# Altium schematic symbol library Connectors_Erni.SchLib: 60 symbols
Pins are listed as number, name and electrical type; pins without a type are passive.

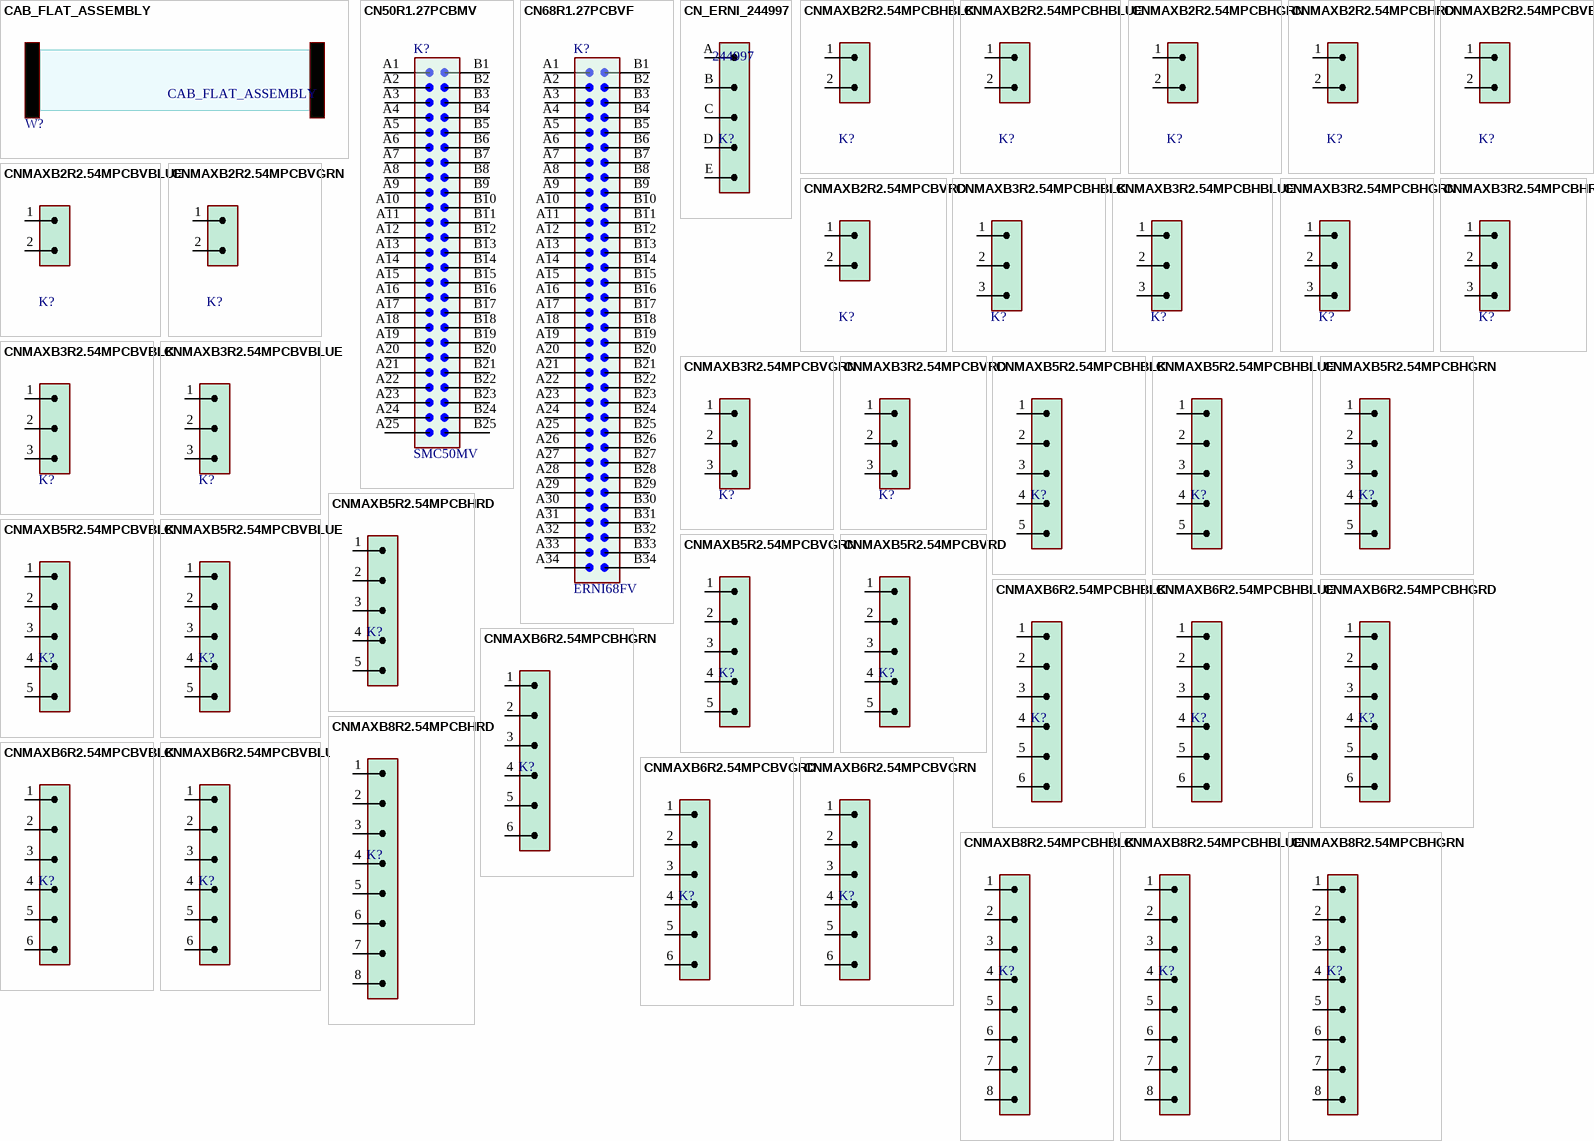
[diagram p0: symbols CAB_FLAT_ASSEMBLY to CNMAXB8R2.54MPCBHRD]

## CAB_FLAT_ASSEMBLY
designator W?
Flat Cable Assembly 50Ways 30AWG R0.635; Manufacturer: ERNI; Manufaturer No: 173793; Sort: 610; Comment2: 50Ways, Length 100mm, 30AWG

## CN50R1.27PCBMV
designator K?, comment SMC50MV
Connector 50 pin SMD R1.27mm male; Manufacturer: Erni; Sort: 610; Tech: SMDR; Price: 0
signal-integrity model Model Name (Model Description)
footprint SMC50MPCBV (ERNI SMC 50 pin MALE VERT)
pins: A1, A2, A3, A4, A5, A6, A7, A8, A9, A10, A11, A12, A13, A14, A15, A16, A17, A18, A19, A20, A21, A22, A23, A24, A25, B1, B2, B3, B4, B5, B6, B7, B8, B9, B10, B11, B12, B13, B14, B15, B16, B17, B18, B19, B20, B21, B22, B23, B24, B25

## CN68R1.27PCBVF
designator K?, comment ERNI68FV
Connector 64 pin SMD R1.0mm female; Manufacturer: Erni; Sort: 610; Tech: SMDR; Price: 0
signal-integrity model Model Name (Model Description)
footprint CN64R1FV (71439-0864)
pins: A1, A2, A3, A4, A5, A6, A7, A8, A9, A10, A11, A12, A13, A14, A15, A16, A17, A18, A19, A20, A21, A22, A23, A24, A25, A26, A27, A28, A29, A30, A31, A32, A33, A34, B1, B2, B3, B4, B5, B6, B7, B8, B9, B10, B11, B12, B13, B14, B15, B16, B17, B18, B19, B20, B21, B22, B23, B24, B25, B26, B27, B28, B29, B30, B31, B32, B33, B34

## CN_ERNI_244997
designator K?, comment 244997
MaxiBridge header 5 pin horiz closed R2.54mm Black; Manufacturer: ERNI; Sort: 610; Tech: THDW; Package: CN 5pin power; Manufacturer No: 244997; Price: 0
footprint CN_ERNI_244997 (CN power 5pin 22.3x17.7x14.3mm)
pins: A, B, C, D, E

## CNMAXB2R2.54MPCBHBLK
designator K?, comment MAXB2-R2.54-HBLK  (value not drawn)
MaxiBridge header 2 pin horiz closed R2.54mm Black; Manufacturer: ERNI; Manufacturer No: 234832; Sort: 610; Tech: THDW; Price: 0
footprint MAXB2MPCBH (MaxiBridge 2 pin MALE HORIZONTAL)
pins: 1, 2

## CNMAXB2R2.54MPCBHBLUE
designator K?, comment MAXB2-R2.54-HBLUE  (value not drawn)
MaxiBridge header 2 pin horiz closed R2.54mm Blue; Manufacturer: ERNI; Manufacturer No: 234833; Sort: 610; Tech: THDW; Price: 0
footprint MAXB2MPCBH (MaxiBridge 2 pin MALE HORIZONTAL)
pins: 1, 2

## CNMAXB2R2.54MPCBHGRN
designator K?, comment MAXB2-R2.54-HGRN  (value not drawn)
MaxiBridge header 2 pin horiz closed R2.54mm Green; Manufacturer: ERNI; Manufacturer No: 234834; Sort: 610; Tech: THDW; Price: 0
footprint MAXB2MPCBH (MaxiBridge 2 pin MALE HORIZONTAL)
pins: 1, 2

## CNMAXB2R2.54MPCBHRD
designator K?, comment MAXB2-R2.54-HRD  (value not drawn)
MaxiBridge header 2 pin horiz closed R2.54mm Red; Manufacturer: ERNI; Manufacturer No: 234835; Sort: 610; Tech: THDW; Price: 0
footprint MAXB2MPCBH (MaxiBridge 2 pin MALE HORIZONTAL)
pins: 1, 2

## CNMAXB2R2.54MPCBVBLK
designator K?, comment MAXB2-R2.54-VBLK  (value not drawn)
MaxiBridge header 2 pin vert closed R2.54mm Black; Manufacturer: ERNI; Manufacturer No: 294645; Sort: 610; Tech: THDW; Price: 0
footprint MAXB2MPCBV (MaxiBridge 2 pin Male vertical)
pins: 1, 2

## CNMAXB2R2.54MPCBVBLUE
designator K?, comment MAXB2-R2.54-VBLUE  (value not drawn)
MaxiBridge header 2 pin vert closed R2.54mm Blue; Manufacturer: ERNI; Manufacturer No: 294646; Sort: 610; Tech: THDW; Price: 0
footprint MAXB2MPCBV (MaxiBridge 2 pin Male vertical)
pins: 1, 2

## CNMAXB2R2.54MPCBVGRN
designator K?, comment MAXB2-R2.54-VGRN  (value not drawn)
MaxiBridge header 2 pin vert closed R2.54mm Green; Manufacturer: ERNI; Manufacturer No: 294647; Sort: 610; Tech: THDW; Price: 0
footprint MAXB2MPCBV (MaxiBridge 2 pin Male vertical)
pins: 1, 2

## CNMAXB2R2.54MPCBVRD
designator K?, comment MAXB2-R2.54-VRD  (value not drawn)
MaxiBridge header 2 pin vert closed R2.54mm Red; Manufacturer: ERNI; Manufacturer No: 294648; Sort: 610; Tech: THDW; Price: 0
footprint MAXB2MPCBV (MaxiBridge 2 pin Male vertical)
pins: 1, 2

## CNMAXB3R2.54MPCBHBLK
designator K?, comment MAXB3-R2.54-HBLK  (value not drawn)
MaxiBridge header 3 pin horiz closed R2.54mm Black; Manufacturer: ERNI; Manufacturer No: 284052; Sort: 610; Tech: THDW; Price: 0
footprint MAXB3MPCBH (MaxiBridge 3 pin MALE HORIZONTAL)
pins: 1, 2, 3

## CNMAXB3R2.54MPCBHBLUE
designator K?, comment MAXB3-R2.54-HBLUE  (value not drawn)
MaxiBridge header 3 pin horiz closed R2.54mm Blue; Manufacturer: ERNI; Manufacturer No: 284053; Sort: 610; Tech: THDW; Price: 0
footprint MAXB3MPCBH (MaxiBridge 3 pin MALE HORIZONTAL)
pins: 1, 2, 3

## CNMAXB3R2.54MPCBHGRN
designator K?, comment MAXB3-R2.54-HGRN  (value not drawn)
MaxiBridge header 3 pin horiz closed R2.54mm Green; Manufacturer: ERNI; Manufacturer No: 284054; Sort: 610; Tech: THDW; Price: 0
footprint MAXB3MPCBH (MaxiBridge 3 pin MALE HORIZONTAL)
pins: 1, 2, 3

## CNMAXB3R2.54MPCBHRD
designator K?, comment MAXB3-R2.54-HRD  (value not drawn)
MaxiBridge header 3 pin horiz closed R2.54mm Red; Manufacturer: ERNI; Manufacturer No: 284055; Sort: 610; Tech: THDW; Price: 0
footprint MAXB3MPCBH (MaxiBridge 3 pin MALE HORIZONTAL)
pins: 1, 2, 3

## CNMAXB3R2.54MPCBVBLK
designator K?, comment MAXB3-R2.54-VBLK  (value not drawn)
MaxiBridge header 3 pin vert closed R2.54mm Black; Manufacturer: ERNI; Manufacturer No: 284656; Sort: 610; Tech: THDW; Price: 0
footprint MAXB3MPCBV (MaxiBridge 3 pin Male vertical)
pins: 1, 2, 3

## CNMAXB3R2.54MPCBVBLUE
designator K?, comment MAXB3-R2.54-VBLUE  (value not drawn)
MaxiBridge header 3 pin vert closed R2.54mm Blue; Manufacturer: ERNI; Manufacturer No: 284657; Sort: 610; Tech: THDW; Price: 0
footprint MAXB3MPCBV (MaxiBridge 3 pin Male vertical)
pins: 1, 2, 3

## CNMAXB3R2.54MPCBVGRN
designator K?, comment MAXB3-R2.54-VGRN  (value not drawn)
MaxiBridge header 3 pin vert closed R2.54mm Green; Manufacturer: ERNI; Manufacturer No: 284658; Sort: 610; Tech: THDW; Price: 0
footprint MAXB3MPCBV (MaxiBridge 3 pin Male vertical)
pins: 1, 2, 3

## CNMAXB3R2.54MPCBVRD
designator K?, comment MAXB3-R2.54-VRD  (value not drawn)
MaxiBridge header 3 pin vert closed R2.54mm Red; Manufacturer: ERNI; Manufacturer No: 284659; Sort: 610; Tech: THDW; Price: 0
footprint MAXB3MPCBV (MaxiBridge 3 pin Male vertical)
pins: 1, 2, 3

## CNMAXB5R2.54MPCBHBLK
designator K?, comment MAXB5-R2.54-HBLK  (value not drawn)
MaxiBridge header 5 pin horiz closed R2.54mm Black; Manufacturer: ERNI; Manufacturer No: 254823; Sort: 610; Tech: THDW; Price: 0
footprint MAXB5MPCBH (MaxiBridge 5 pin MALE HORIZONTAL)
pins: 1, 2, 3, 4, 5

## CNMAXB5R2.54MPCBHBLUE
designator K?, comment MAXB5-R2.54-HBLUE  (value not drawn)
MaxiBridge header 5 pin horiz closed R2.54mm Blue; Manufacturer: ERNI; Manufacturer No: 254824; Sort: 610; Tech: THDW; Price: 0
footprint MAXB5MPCBH (MaxiBridge 5 pin MALE HORIZONTAL)
pins: 1, 2, 3, 4, 5

## CNMAXB5R2.54MPCBHGRN
designator K?, comment MAXB5-R2.54-HGRN  (value not drawn)
MaxiBridge header 5 pin horiz closed R2.54mm Green; Manufacturer: ERNI; Manufacturer No: 254825; Sort: 610; Tech: THDW; Price: 0
footprint MAXB5MPCBH (MaxiBridge 5 pin MALE HORIZONTAL)
pins: 1, 2, 3, 4, 5

## CNMAXB5R2.54MPCBHRD
designator K?, comment MAXB5-R2.54-HRD  (value not drawn)
MaxiBridge header 5 pin horiz closed R2.54mm Red; Manufacturer: ERNI; Manufacturer No: 254826; Sort: 610; Tech: THDW; Price: 0
footprint MAXB5MPCBH (MaxiBridge 5 pin MALE HORIZONTAL)
pins: 1, 2, 3, 4, 5

## CNMAXB5R2.54MPCBVBLK
designator K?, comment MAXB5-R2.54-VBLK  (value not drawn)
MaxiBridge header 5 pin vert closed R2.54mm Black; Manufacturer: ERNI; Manufacturer No: 254831; Sort: 610; Tech: THDW; Price: 0
footprint MAXB5MPCBV (MaxiBridge 5 pin Male vertical)
pins: 1, 2, 3, 4, 5

## CNMAXB5R2.54MPCBVBLUE
designator K?, comment MAXB5-R2.54-VBLUE  (value not drawn)
MaxiBridge header 5 pin vert closed R2.54mm Blue; Manufacturer: ERNI; Manufacturer No: 254832; Sort: 610; Tech: THDW; Price: 0
footprint MAXB5MPCBV (MaxiBridge 5 pin Male vertical)
pins: 1, 2, 3, 4, 5

## CNMAXB5R2.54MPCBVGRN
designator K?, comment MAXB5-R2.54-VGRN  (value not drawn)
MaxiBridge header 5 pin vert closed R2.54mm Green; Manufacturer: ERNI; Manufacturer No: 254833; Sort: 610; Tech: THDW; Price: 0
footprint MAXB5MPCBV (MaxiBridge 5 pin Male vertical)
pins: 1, 2, 3, 4, 5

## CNMAXB5R2.54MPCBVRD
designator K?, comment MAXB5-R2.54-VRD  (value not drawn)
MaxiBridge header 5 pin vert closed R2.54mm Red; Manufacturer: ERNI; Manufacturer No: 254834; Sort: 610; Tech: THDW; Price: 0
footprint MAXB5MPCBV (MaxiBridge 5 pin Male vertical)
pins: 1, 2, 3, 4, 5

## CNMAXB6R2.54MPCBHBLK
designator K?, comment MAXB6-R2.54-HBLK  (value not drawn)
MaxiBridge header 6 pin horiz closed R2.54mm Black; Manufacturer: ERNI; Manufacturer No: 254699; Sort: 610; Tech: THDW; Price: 0
footprint MAXB6MPCBH (MaxiBridge 6 pin MALE HORIZONTAL)
pins: 1, 2, 3, 4, 5, 6

## CNMAXB6R2.54MPCBHBLUE
designator K?, comment MAXB6-R2.54-HBLUE  (value not drawn)
MaxiBridge header 6 pin horiz closed R2.54mm Blue; Manufacturer: ERNI; Manufacturer No: 254700; Sort: 610; Tech: THDW; Price: 0
footprint MAXB6MPCBH (MaxiBridge 6 pin MALE HORIZONTAL)
pins: 1, 2, 3, 4, 5, 6

## CNMAXB6R2.54MPCBHGRD
designator K?, comment MAXB6-R2.54-HRD  (value not drawn)
MaxiBridge header 6 pin horiz closed R2.54mm Red; Manufacturer: ERNI; Manufacturer No: 254702; Sort: 610; Tech: THDW; Price: 0
footprint MAXB6MPCBH (MaxiBridge 6 pin MALE HORIZONTAL)
pins: 1, 2, 3, 4, 5, 6

## CNMAXB6R2.54MPCBHGRN
designator K?, comment MAXB6-R2.54-HGRN  (value not drawn)
MaxiBridge header 6 pin horiz closed R2.54mm Green; Manufacturer: ERNI; Manufacturer No: 254701; Sort: 610; Tech: THDW; Price: 0
footprint MAXB6MPCBH (MaxiBridge 6 pin MALE HORIZONTAL)
pins: 1, 2, 3, 4, 5, 6

## CNMAXB6R2.54MPCBVBLK
designator K?, comment MAXB6-R2.54-VBLK  (value not drawn)
MaxiBridge header 6 pin vert closed R2.54mm Black; Manufacturer: ERNI; Manufacturer No: 254707; Sort: 610; Tech: THDW; Price: 0
footprint MAXB6MPCBV (MaxiBridge 6 pin Male vertical)
pins: 1, 2, 3, 4, 5, 6

## CNMAXB6R2.54MPCBVBLUE
designator K?, comment MAXB6-R2.54-VBLUE  (value not drawn)
MaxiBridge header 6 pin vert closed R2.54mm Blue; Manufacturer: ERNI; Manufacturer No: 254708; Sort: 610; Tech: THDW; Price: 0
footprint MAXB6MPCBV (MaxiBridge 6 pin Male vertical)
pins: 1, 2, 3, 4, 5, 6

## CNMAXB6R2.54MPCBVGRD
designator K?, comment MAXB6-R2.54-VRD  (value not drawn)
MaxiBridge header 6 pin vert closed R2.54mm Red; Manufacturer: ERNI; Manufacturer No: 254710; Sort: 610; Tech: THDW; Price: 0
footprint MAXB6MPCBV (MaxiBridge 6 pin Male vertical)
pins: 1, 2, 3, 4, 5, 6

## CNMAXB6R2.54MPCBVGRN
designator K?, comment MAXB6-R2.54-VGRN  (value not drawn)
MaxiBridge header 6 pin vert closed R2.54mm Green; Manufacturer: ERNI; Manufacturer No: 254709; Sort: 610; Tech: THDW; Price: 0
footprint MAXB6MPCBV (MaxiBridge 6 pin Male vertical)
pins: 1, 2, 3, 4, 5, 6

## CNMAXB8R2.54MPCBHBLK
designator K?, comment MAXB8-R2.54-HBLK  (value not drawn)
MaxiBridge header 8 pin horiz closed R2.54mm Black; Manufacturer: ERNI; Manufacturer No: 284121; Sort: 610; Tech: THDW; Price: 0
footprint MAXB8MPCBH (MaxiBridge 8 pin MALE HORIZONTAL)
pins: 1, 2, 3, 4, 5, 6, 7, 8

## CNMAXB8R2.54MPCBHBLUE
designator K?, comment MAXB8-R2.54-HBLUE  (value not drawn)
MaxiBridge header 8 pin horiz closed R2.54mm Blue; Manufacturer: ERNI; Manufacturer No: 284122; Sort: 610; Tech: THDW; Price: 0
footprint MAXB8MPCBH (MaxiBridge 8 pin MALE HORIZONTAL)
pins: 1, 2, 3, 4, 5, 6, 7, 8

## CNMAXB8R2.54MPCBHGRN
designator K?, comment MAXB8-R2.54-HGRN  (value not drawn)
MaxiBridge header 8 pin horiz closed R2.54mm Green; Manufacturer: ERNI; Manufacturer No: 284123; Sort: 610; Tech: THDW; Price: 0
footprint MAXB8MPCBH (MaxiBridge 8 pin MALE HORIZONTAL)
pins: 1, 2, 3, 4, 5, 6, 7, 8

## CNMAXB8R2.54MPCBHRD
designator K?, comment MAXB8-R2.54-HRD  (value not drawn)
MaxiBridge header 8 pin horiz closed R2.54mm Red; Manufacturer: ERNI; Manufacturer No: 284124; Sort: 610; Tech: THDW; Price: 0
footprint MAXB8MPCBH (MaxiBridge 8 pin MALE HORIZONTAL)
pins: 1, 2, 3, 4, 5, 6, 7, 8

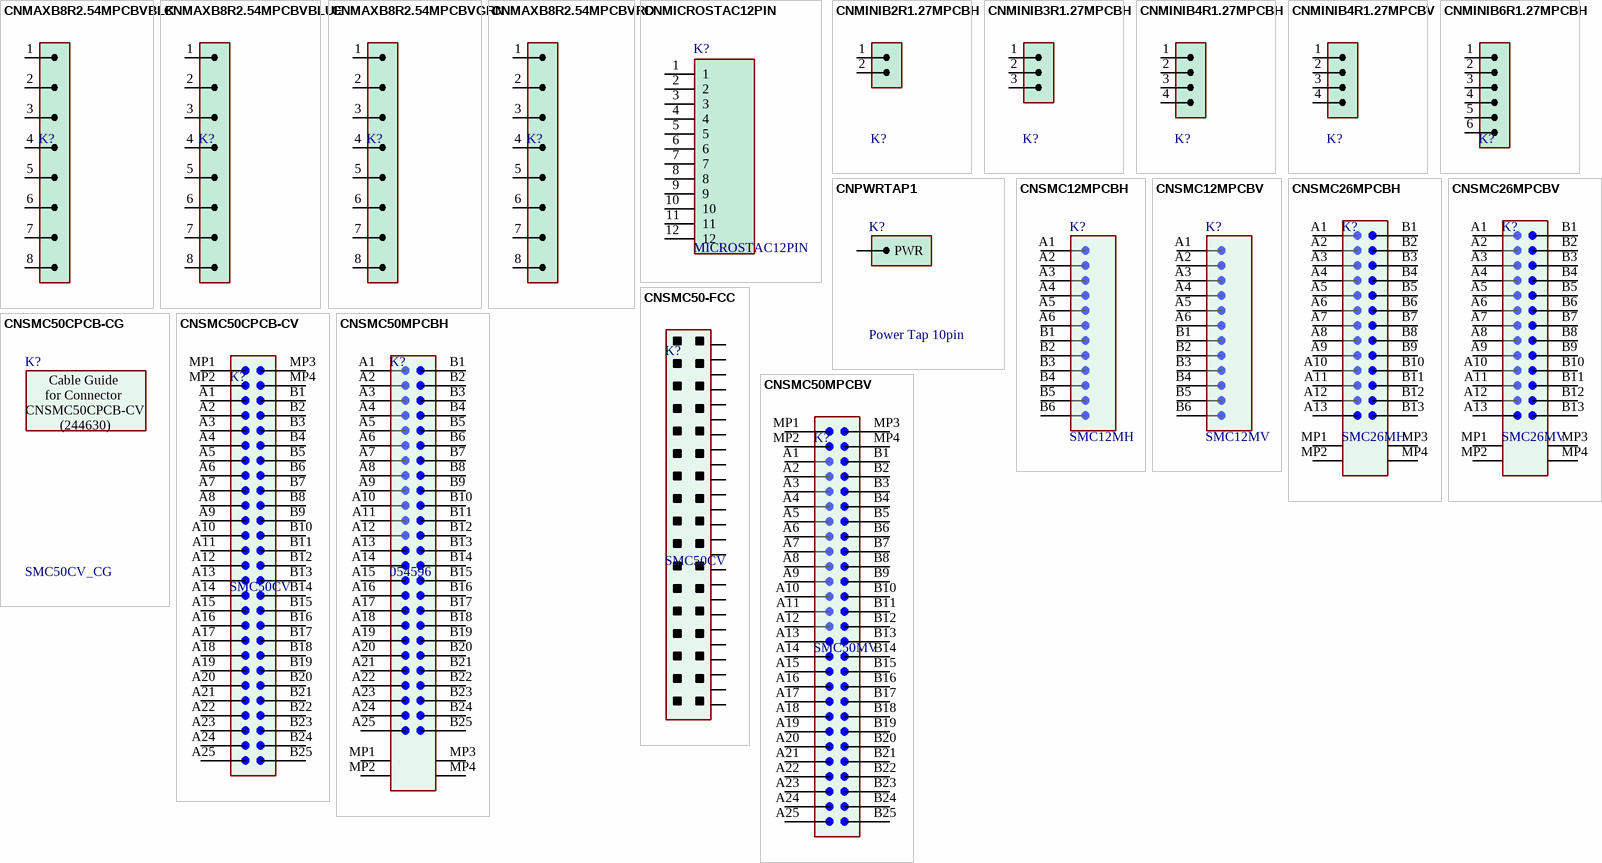
[diagram p1: symbols CNMAXB8R2.54MPCBVBLK to CNSMC50MPCBV]

## CNMAXB8R2.54MPCBVBLK
designator K?, comment MAXB8-R2.54-VBLK  (value not drawn)
MaxiBridge header 8 pin vert closed R2.54mm Black; Manufacturer: ERNI; Manufacturer No: 294649; Sort: 610; Tech: THDW; Price: 0
footprint MAXB8MPCBV (MaxiBridge 8 pin Male vertical)
pins: 1, 2, 3, 4, 5, 6, 7, 8

## CNMAXB8R2.54MPCBVBLUE
designator K?, comment MAXB8-R2.54-VBLUE  (value not drawn)
MaxiBridge header 8 pin vert closed R2.54mm Blue; Manufacturer: ERNI; Manufacturer No: 294650; Sort: 610; Tech: THDW; Price: 0
footprint MAXB8MPCBV (MaxiBridge 8 pin Male vertical)
pins: 1, 2, 3, 4, 5, 6, 7, 8

## CNMAXB8R2.54MPCBVGRN
designator K?, comment MAXB8-R2.54-VGRN  (value not drawn)
MaxiBridge header 8 pin vert closed R2.54mm Green; Manufacturer: ERNI; Manufacturer No: 294651; Sort: 610; Tech: THDW; Price: 0
footprint MAXB8MPCBV (MaxiBridge 8 pin Male vertical)
pins: 1, 2, 3, 4, 5, 6, 7, 8

## CNMAXB8R2.54MPCBVRD
designator K?, comment MAXB8-R2.54-VRD  (value not drawn)
MaxiBridge header 8 pin vert closed R2.54mm Red; Manufacturer: ERNI; Manufacturer No: 294652; Sort: 610; Tech: THDW; Price: 0
footprint MAXB8MPCBV (MaxiBridge 8 pin Male vertical)
pins: 1, 2, 3, 4, 5, 6, 7, 8

## CNMICROSTAC12PIN
designator K?, comment MICROSTAC12PIN
MicroStac Connector 0.8mm 12pin 5mmStackHeight; Manufacturer: Erni; Manufacturer No: 114712; Comment2: MicroStack connector; Sort: 610; Tech: THDW; Price: 0
footprint CN114712_12PIN (Erni 114712 12pin vertical 4.35mm R0.8mm)
pins: 1, 2, 3, 4, 5, 6, 7, 8, 9, 10, 11, 12

## CNMINIB2R1.27MPCBH
designator K?, comment MINIB2-R1.27-H  (value not drawn)
MiniBridge header 2 pin horiz R1.27mm; Manufacturer: ERNI; Manufacturer No: 284121; Sort: 610; Tech: THDW; Price: 0
footprint MINIB2MPCBH (MiniBridge 2 pin MALE HORIZONTAL)
pins: 1, 2

## CNMINIB3R1.27MPCBH
designator K?, comment MINIB3-R1.27-H  (value not drawn)
MiniBridge header 3 pin horiz R1.27mm; Manufacturer: ERNI; Manufacturer No: 234450; Sort: 610; Tech: THDW; Price: 0
footprint MINIB3MPCBH (MiniBridge 3 pin MALE HORIZONTAL)
pins: 1, 2, 3

## CNMINIB4R1.27MPCBH
designator K?, comment MINIB4-R1.27-H  (value not drawn)
MiniBridge header 4 pin horiz R1.27mm; Manufacturer: ERNI; Manufacturer No: 214012; Sort: 610; Tech: THDW; Price: 0
footprint MINIB4MPCBH (MiniBridge 4 pin MALE HORIZONTAL)
pins: 1, 2, 3, 4

## CNMINIB4R1.27MPCBV
designator K?, comment MINIB4-R1.27-V  (value not drawn)
MiniBridge header 4 pin vert. R1.27mm; Manufacturer: ERNI; Manufacturer No: 284697; Sort: 610; Tech: THDW; Package: CN mini4 vert; Price: 0
footprint MINIB4MPCBV (MiniBridge 4 pin MALE vertical)
pins: 1, 2, 3, 4

## CNMINIB6R1.27MPCBH
designator K?, comment MINIB6-R1.27-H  (value not drawn)
MiniBridge header 6 pin horiz R1.27mm; Manufacturer: ERNI; Manufacturer No: 214013; Sort: 610; Tech: THDW; Price: 0
footprint MINIB6MPCBH (MiniBridge 6 pin MALE HORIZONTAL)
pins: 1, 2, 3, 4, 5, 6

## CNPWRTAP1
designator K?, comment Power Tap 10pin
Connector Power Tap pressfit, 10  pin R2.54 for Backplane; Manufacturer No: 214782; Manufacturer: Erni; Comment2: 10pin R2.54 pressfit M4 40A; Sort: 610; Tech: THDW; Price: 0
footprint CNPWRTAP1 (Power Tap, pressfit for Backplane, 10pin, R2.54)
pins: 1 PWR (power)

## CNSMC12MPCBH
designator K?, comment SMC12MH
Connector SMC 12 pin male horizontal; Manufacturer: Erni; Manufacturer No: 054594; Sort: 610; Tech: SMDR; Price: 0
signal-integrity model Model Name (Model Description)
footprint SMC12MPCBH (ERNI SMC12 pin MALE HOR)
pins: A1, A2, A3, A4, A5, A6, B1, B2, B3, B4, B5, B6

## CNSMC12MPCBV
designator K?, comment SMC12MV
Connector SMC 12 pin male vertical; Manufacturer: Erni; Sort: 610; Tech: SMDR; Price: 0
signal-integrity model Model Name (Model Description)
footprint SMC12MPCBV (ERNI SMC12 pin MALE VERT)
pins: A1, A2, A3, A4, A5, A6, B1, B2, B3, B4, B5, B6

## CNSMC26MPCBH
designator K?, comment SMC26MH
Connector SMC 26pin male horizontal; Manufacturer: Erni; Manufacturer No: 054595; Sort: 610; Tech: SMDR; Price: 0
signal-integrity model Model Name (Model Description)
footprint SMC26MPCBH (ERNI SMC26 pin MALE HOR)
pins: A1, A2, A3, A4, A5, A6, A7, A8, A9, A10, A11, A12, A13, B1, B2, B3, B4, B5, B6, B7, B8, B9, B10, B11, B12, B13, MP1, MP2, MP3, MP4
1 alternate drawing of the same symbol

## CNSMC26MPCBV
designator K?, comment SMC26MV
Connector SMC 26pin male vertical; Manufacturer: Erni; Manufacturer No: 154819; Sort: 610; Tech: SMDR; Price: 0
signal-integrity model Model Name (Model Description)
footprint SMC26MPCBV (ERNI SMC26 pin MALE VERT)
pins: A1, A2, A3, A4, A5, A6, A7, A8, A9, A10, A11, A12, A13, B1, B2, B3, B4, B5, B6, B7, B8, B9, B10, B11, B12, B13, MP1, MP2, MP3, MP4
1 alternate drawing of the same symbol

## CNSMC50-FCC
designator K?, comment SMC50CV
IDC Female Connector SMC-B 50pol. with Locking Latches; Manufacturer: Erni; Manufacturer No: 214347; Sort: 610; Tech: SMDR; Price: 0

## CNSMC50CPCB-CG
designator K?, comment SMC50CV_CG
IDC 50 pin SMC Cable Guide; Manufacturer: Erni; Manufacturer No: 244633; Sort: 610; Tech: SMDR; Price: 0
text: Cable Guide / for Connector / CNSMC50CPCB-CV / (244630)

## CNSMC50CPCB-CV
designator K?, comment SMC50CV
Dual Row Board-on SMT IDC Cable Connectors; Manufacturer: Erni; Manufacturer No: 244630; Sort: 610; Tech: SMDR; Price: 0
signal-integrity model Model Name (Model Description)
footprint SMC50MPCB-CV (ERNI SMT50pin CABLE on BOARD)
pins: A1, A2, A3, A4, A5, A6, A7, A8, A9, A10, A11, A12, A13, A14, A15, A16, A17, A18, A19, A20, A21, A22, A23, A24, A25, B1, B2, B3, B4, B5, B6, B7, B8, B9, B10, B11, B12, B13, B14, B15, B16, B17, B18, B19, B20, B21, B22, B23, B24, B25, MP1, MP2, MP3, MP4

## CNSMC50MPCBH
designator K?, comment 054596
Connector SMC 50 pin male horizontal dual row; Manufacturer: Erni; Sort: 610; Tech: SMDR; Manufacturer No: 054596; Price: 0
signal-integrity model Model Name (Model Description)
footprint SMC50MPCBH (ERNI SMC50 pin MALE HOR)
pins: A1, A2, A3, A4, A5, A6, A7, A8, A9, A10, A11, A12, A13, A14, A15, A16, A17, A18, A19, A20, A21, A22, A23, A24, A25, B1, B2, B3, B4, B5, B6, B7, B8, B9, B10, B11, B12, B13, B14, B15, B16, B17, B18, B19, B20, B21, B22, B23, B24, B25, MP1, MP2, MP3, MP4

## CNSMC50MPCBV
designator K?, comment SMC50MV
Connector SMC 50 pin male vertical dual row; Manufacturer: Erni; Manufacturer No: 154820; Sort: 610; Tech: SMDR; Price: 0
signal-integrity model Model Name (Model Description)
footprint SMC50MPCBV (ERNI SMC 50 pin MALE VERT)
pins: A1, A2, A3, A4, A5, A6, A7, A8, A9, A10, A11, A12, A13, A14, A15, A16, A17, A18, A19, A20, A21, A22, A23, A24, A25, B1, B2, B3, B4, B5, B6, B7, B8, B9, B10, B11, B12, B13, B14, B15, B16, B17, B18, B19, B20, B21, B22, B23, B24, B25, MP1, MP2, MP3, MP4